# Altium integrated library Analog Devices Data Converters Analog-to-Digital Converters.IntLib: 2400 symbols (part 258 of 338)
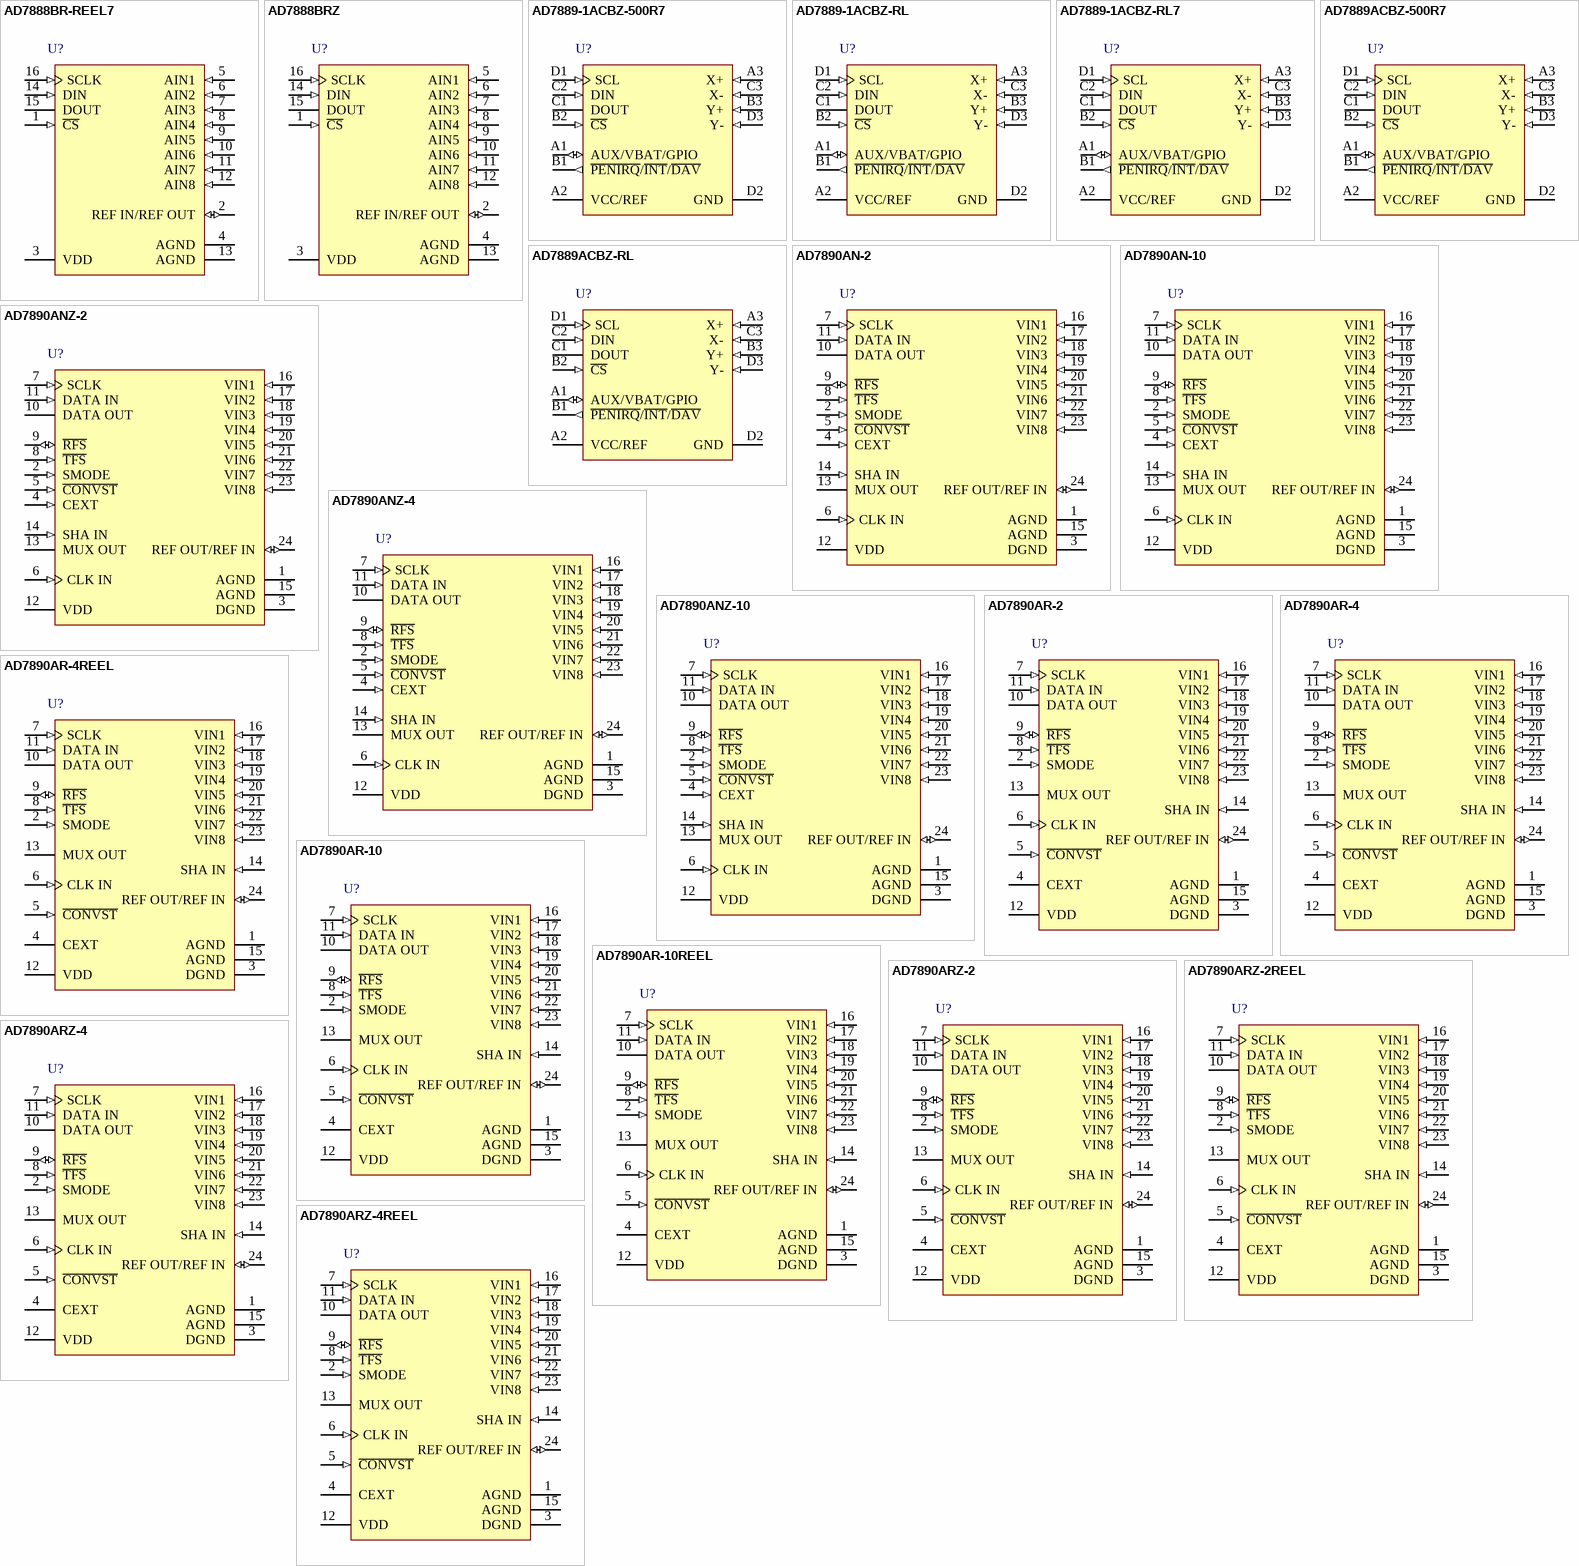
[diagram p394: symbols AD7888BR-REEL7 to AD7890ARZ-4REEL]

## AD7888BR-REEL7
designator U?
Octal 12-Bit Analog-to-Digital Converter with Serial, SPI Interface, Micropower, 2.7 V to 5.25 V, 125KSPS, -40 to +105 degC, R-16, Reel; Part Number: AD7888; Manufacturer: Analog Devices; Resolution (Bits): 12; Channels: 8; Throughput Rate (SPS): 125K; Interface: Ser, SPI; DatasheetVersion: Rev.C; PackageVersion: 060606-A; PackageReference: R-16; PackageDescription: 16-Lead Standard Small Outline Package [SOIC_N] Narrow Body; RoHS: N; Packing: Reel; Mounting Technology: Surface Mount; Code_JEDEC: MS-012-AC; ComponentLink1Description: Manufacturer URL; ComponentLink1URL: http://www.analog.com/en/index.html; ComponentLink2Description: Datasheet; ComponentLink2URL: http://www.analog.com/static/imported-files/data_sheets/AD7888.pdf; ComponentLink3Description: Package Specification; ComponentLink3URL: http://www.analog.com/static/imported-files/packages/PKG_PDF/SOIC_Narrow%20(R)/R_16.pdf; ComponentLink4Description: Product URL; ComponentLink4URL: http://www.analog.com/en/analog-to-digital-converters/ad-converters/ad7888/products/product.html
footprint R-16_N (SOIC, 16-Leads, Body 9.9x3.9mm, Pitch 1.27mm, IPC Medium Density)
footprint R-16_L (SOIC, 16-Leads, Body 9.9x3.9mm, Pitch 1.27mm, IPC High Density)
footprint R-16_M (SOIC, 16-Leads, Body 9.9x3.9mm, Pitch 1.27mm, IPC Low Density)
pins: 1 ~{CS} (in) "Chip Select. Active low logic input. This input provides the dual function of initiating conversions on the AD7888 and also frames the serial data transfer.", 2 REF IN/REF OUT (io) "Reference Input/Output. The on-chip reference is available on this pin for use external to the AD7888.", 3 VDD (power) "Power Supply Input. The VDD range for the AD7888 is from 2.7 V to 5.25 V.", 4 AGND (power) "Analog Ground. Ground reference point for all circuitry on the AD7888. All analog input signals and any external reference signals should be referred to this AGND voltage. Both of these pins should connect to the AGND plane (See Datasheet)", 5 AIN1 (in) "Analog Input 1 through Analog Input 8. Eight single-ended analog input channels that are multiplexed into the on-chip track/hold. The analog input channel to be converted is selected by using the ADD0 through ADD2 bits of (See Datasheet)", 6 AIN2 (in) "Analog Input 1 through Analog Input 8. Eight single-ended analog input channels that are multiplexed into the on-chip track/hold. The analog input channel to be converted is selected by using the ADD0 through ADD2 bits of (See Datasheet)", 7 AIN3 (in) "Analog Input 1 through Analog Input 8. Eight single-ended analog input channels that are multiplexed into the on-chip track/hold. The analog input channel to be converted is selected by using the ADD0 through ADD2 bits of (See Datasheet)", 8 AIN4 (in) "Analog Input 1 through Analog Input 8. Eight single-ended analog input channels that are multiplexed into the on-chip track/hold. The analog input channel to be converted is selected by using the ADD0 through ADD2 bits of (See Datasheet)", 9 AIN5 (in) "Analog Input 1 through Analog Input 8. Eight single-ended analog input channels that are multiplexed into the on-chip track/hold. The analog input channel to be converted is selected by using the ADD0 through ADD2 bits of (See Datasheet)", 10 AIN6 (in) "Analog Input 1 through Analog Input 8. Eight single-ended analog input channels that are multiplexed into the on-chip track/hold. The analog input channel to be converted is selected by using the ADD0 through ADD2 bits of (See Datasheet)", 11 AIN7 (in) "Analog Input 1 through Analog Input 8. Eight single-ended analog input channels that are multiplexed into the on-chip track/hold. The analog input channel to be converted is selected by using the ADD0 through ADD2 bits of (See Datasheet)", 12 AIN8 (in) "Analog Input 1 through Analog Input 8. Eight single-ended analog input channels that are multiplexed into the on-chip track/hold. The analog input channel to be converted is selected by using the ADD0 through ADD2 bits of (See Datasheet)", 13 AGND (power) "Analog Ground. Ground reference point for all circuitry on the AD7888. All analog input signals and any external reference signals should be referred to this AGND voltage. Both of these pins should connect to the AGND plane (See Datasheet)", 14 DIN (in) "Data In. Logic Input. Data to be written to the AD7888’s Control Register is provided on this input and is clocked into the register on the rising edge of SCLK (see Control Register section).", 15 DOUT (hiz) "Data Out. Logic Output. The conversion result from the AD7888 is provided on this output as a serial data stream. The bits are clocked out on the falling edge of the SCLK input. The data stream consists data stream. The bits (See Datasheet)", 16 SCLK (in) "Serial Clock. Logic Input. SCLK provides the serial clock for accessing data from the part and writing serial data to the Control Register. This clock input is also used as the clock source for the AD7888’s conversion (See Datasheet)"

## AD7888BRZ
designator U?
Octal 12-Bit Analog-to-Digital Converter with Serial, SPI Interface, Micropower, 2.7 V to 5.25 V, 125KSPS, -40 to +105 degC, R-16, Pb-Free, Tube; Part Number: AD7888; Manufacturer: Analog Devices; Resolution (Bits): 12; Channels: 8; Throughput Rate (SPS): 125K; Interface: Ser, SPI; DatasheetVersion: Rev.C; PackageVersion: 060606-A; PackageReference: R-16; PackageDescription: 16-Lead Standard Small Outline Package [SOIC_N] Narrow Body; RoHS: Y; Packing: Tube; Mounting Technology: Surface Mount; Code_JEDEC: MS-012-AC; ComponentLink1Description: Manufacturer URL; ComponentLink1URL: http://www.analog.com/en/index.html; ComponentLink2Description: Datasheet; ComponentLink2URL: http://www.analog.com/static/imported-files/data_sheets/AD7888.pdf; ComponentLink3Description: Package Specification; ComponentLink3URL: http://www.analog.com/static/imported-files/packages/PKG_PDF/SOIC_Narrow%20(R)/R_16.pdf; ComponentLink4Description: Product URL; ComponentLink4URL: http://www.analog.com/en/analog-to-digital-converters/ad-converters/ad7888/products/product.html
footprint R-16_N (SOIC, 16-Leads, Body 9.9x3.9mm, Pitch 1.27mm, IPC Medium Density)
footprint R-16_L (SOIC, 16-Leads, Body 9.9x3.9mm, Pitch 1.27mm, IPC High Density)
footprint R-16_M (SOIC, 16-Leads, Body 9.9x3.9mm, Pitch 1.27mm, IPC Low Density)
pins: 1 ~{CS} (in) "Chip Select. Active low logic input. This input provides the dual function of initiating conversions on the AD7888 and also frames the serial data transfer.", 2 REF IN/REF OUT (io) "Reference Input/Output. The on-chip reference is available on this pin for use external to the AD7888.", 3 VDD (power) "Power Supply Input. The VDD range for the AD7888 is from 2.7 V to 5.25 V.", 4 AGND (power) "Analog Ground. Ground reference point for all circuitry on the AD7888. All analog input signals and any external reference signals should be referred to this AGND voltage. Both of these pins should connect to the AGND plane (See Datasheet)", 5 AIN1 (in) "Analog Input 1 through Analog Input 8. Eight single-ended analog input channels that are multiplexed into the on-chip track/hold. The analog input channel to be converted is selected by using the ADD0 through ADD2 bits of (See Datasheet)", 6 AIN2 (in) "Analog Input 1 through Analog Input 8. Eight single-ended analog input channels that are multiplexed into the on-chip track/hold. The analog input channel to be converted is selected by using the ADD0 through ADD2 bits of (See Datasheet)", 7 AIN3 (in) "Analog Input 1 through Analog Input 8. Eight single-ended analog input channels that are multiplexed into the on-chip track/hold. The analog input channel to be converted is selected by using the ADD0 through ADD2 bits of (See Datasheet)", 8 AIN4 (in) "Analog Input 1 through Analog Input 8. Eight single-ended analog input channels that are multiplexed into the on-chip track/hold. The analog input channel to be converted is selected by using the ADD0 through ADD2 bits of (See Datasheet)", 9 AIN5 (in) "Analog Input 1 through Analog Input 8. Eight single-ended analog input channels that are multiplexed into the on-chip track/hold. The analog input channel to be converted is selected by using the ADD0 through ADD2 bits of (See Datasheet)", 10 AIN6 (in) "Analog Input 1 through Analog Input 8. Eight single-ended analog input channels that are multiplexed into the on-chip track/hold. The analog input channel to be converted is selected by using the ADD0 through ADD2 bits of (See Datasheet)", 11 AIN7 (in) "Analog Input 1 through Analog Input 8. Eight single-ended analog input channels that are multiplexed into the on-chip track/hold. The analog input channel to be converted is selected by using the ADD0 through ADD2 bits of (See Datasheet)", 12 AIN8 (in) "Analog Input 1 through Analog Input 8. Eight single-ended analog input channels that are multiplexed into the on-chip track/hold. The analog input channel to be converted is selected by using the ADD0 through ADD2 bits of (See Datasheet)", 13 AGND (power) "Analog Ground. Ground reference point for all circuitry on the AD7888. All analog input signals and any external reference signals should be referred to this AGND voltage. Both of these pins should connect to the AGND plane (See Datasheet)", 14 DIN (in) "Data In. Logic Input. Data to be written to the AD7888’s Control Register is provided on this input and is clocked into the register on the rising edge of SCLK (see Control Register section).", 15 DOUT (hiz) "Data Out. Logic Output. The conversion result from the AD7888 is provided on this output as a serial data stream. The bits are clocked out on the falling edge of the SCLK input. The data stream consists data stream. The bits (See Datasheet)", 16 SCLK (in) "Serial Clock. Logic Input. SCLK provides the serial clock for accessing data from the part and writing serial data to the Control Register. This clock input is also used as the clock source for the AD7888’s conversion (See Datasheet)"